# Altium footprint library HamsterBear_Core_Board.PcbLib: 31 footprints (part 2 of 2)
Each footprint in its own frame and in the unit in brackets; x right, y up, seen from the top. Pads: shape width x height; smd on the part's side, far side on the other; paste and mask are expansions set on the pad; w line width, h text height; cw(c..) or ccw(c..) is an arc to the next point about the centre after c.
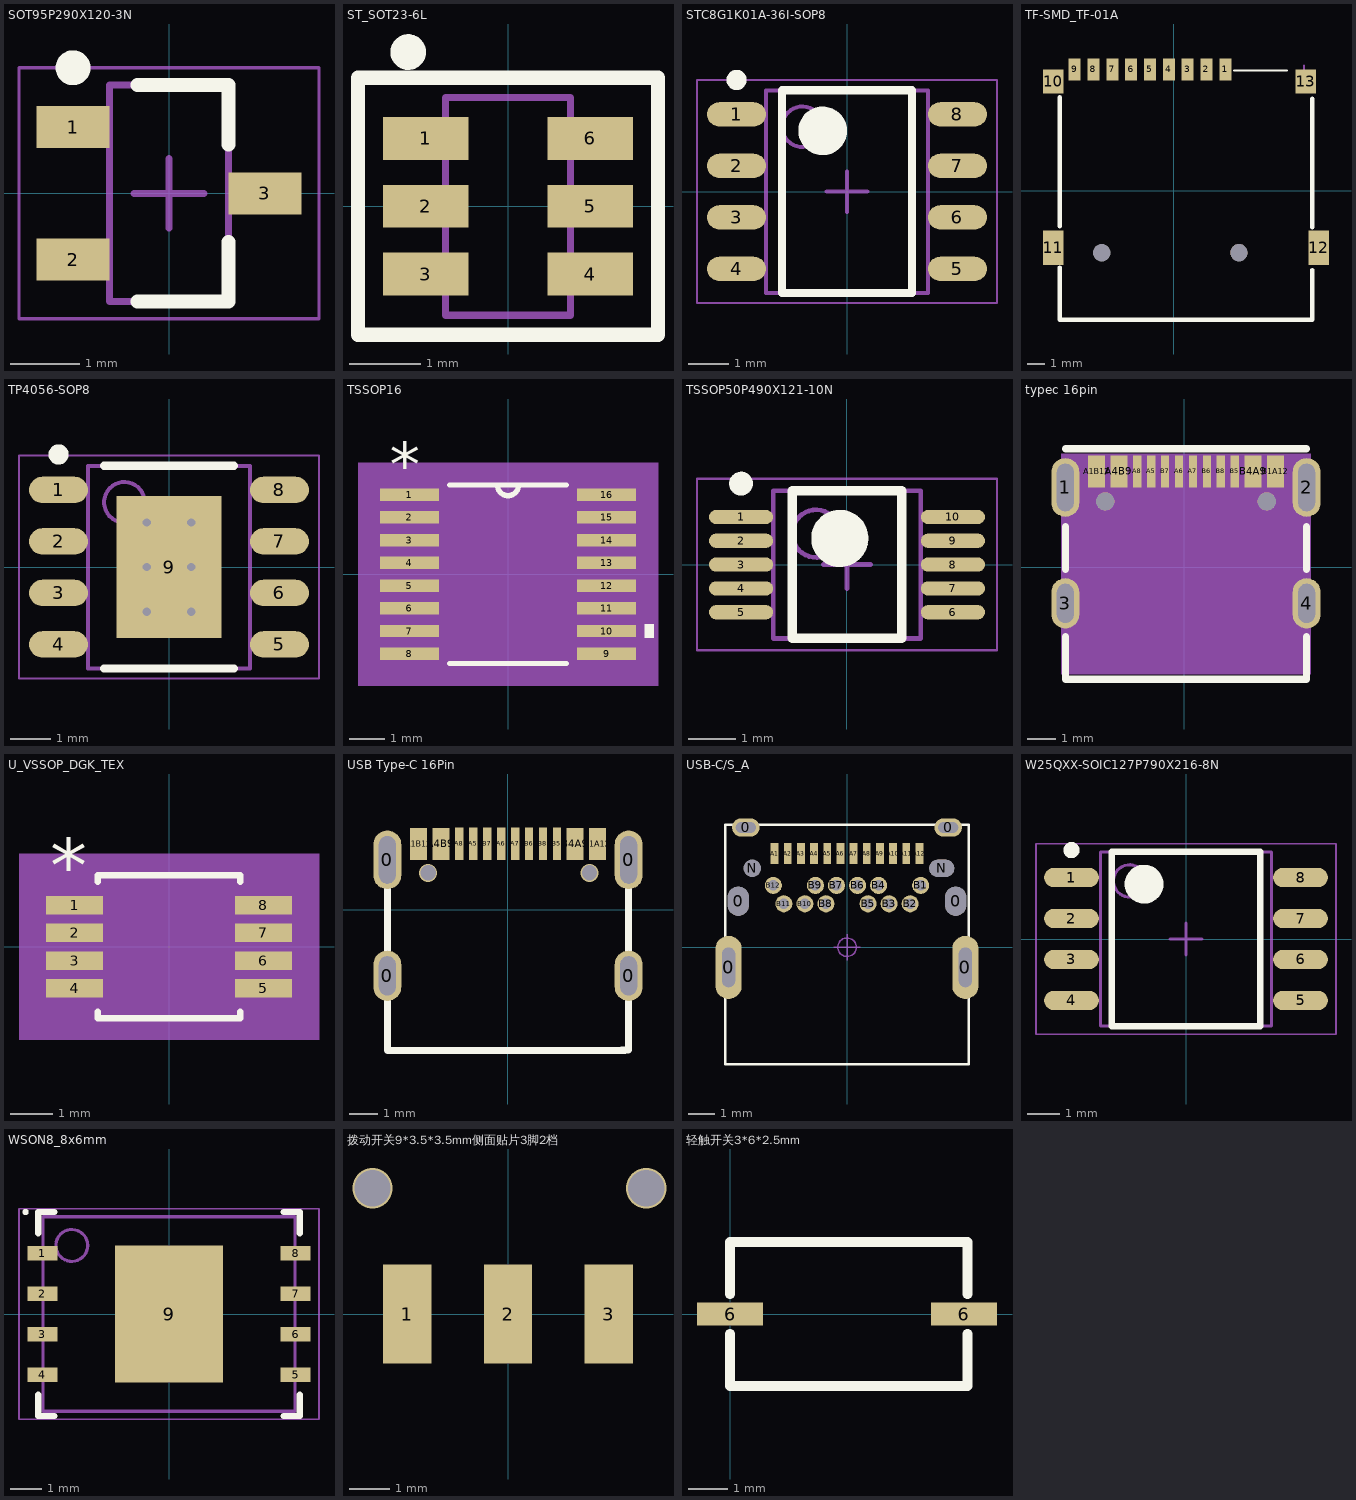
[diagram p1: the footprints below, top view; thin cyan lines are the x and y axes]

## SOT95P290X120-3N [mm] "SOT23, 3-Leads, Body 2.90x2.90mm, Pitch 0.95mm, IPC Medium Density"
height 1.2
pads (3):
  rect 1.05x0.6 smd: 1(-1.375,0.95) 2(-1.375,-0.95) 3(1.375,0)
Top Overlay:
  circle w0.25: c-1.375,1.8 r0.125
  lines w0.2: -0.45,-1.55 0.85,-1.55 0.85,-0.7 ; -0.45,1.55 0.85,1.55 0.85,0.7
Mechanical 13:
  lines w0.1: -0.85,-1.55 -0.85,1.55 0.85,1.55 0.85,-1.55 -0.85,-1.55
Mechanical 15:
  lines w0.05: -2.15,-1.8 -2.15,1.8 2.15,1.8 2.15,-1.8 -2.15,-1.8
  lines w0.1: -0.5,0 0.5,0 ; 0,-0.5 0,0.5
3D body "SOT95P290X120-3N.step": height 1.2, standoff 0, extent -1.55,-1.55 1.55,1.55

## ST_SOT23-6L [mm] "SOT23, 6-Leads, Body 2.93x2.80mm, Pitch 0.95mm, IPC Medium Density"
height 1.45
pads (6):
  rect 1.2x0.6 smd: 1(-1.15,0.95) 2(-1.15,0) 3(-1.15,-0.95) 4(1.15,-0.95) 5(1.15,0) 6(1.15,0.95)
Top Overlay:
  circle w0.25: c-1.397,2.159 r0.125
  lines w0.2: -2.1,-1.8 2.1,-1.8 2.1,1.8 -2.1,1.8 -2.1,-1.8
Mechanical 13:
  lines w0.1: -0.875,-1.525 -0.875,1.525 0.875,1.525 0.875,-1.525 -0.875,-1.525
3D body "ST_SOT23-6L.step": height 1.45, standoff 0, extent -1.6,-1.525 1.6,1.525

## STC8G1K01A-36I-SOP8 [mm] "SOP, 8-Leads, Body 4.90x3.90mm, Pitch 1.27mm, IPC Medium Density"
height 1.75
pads (8):
  oval 1.45x0.6 smd: 1(-2.725,1.905) 2(-2.725,0.635) 3(-2.725,-0.635) 4(-2.725,-1.905) 5(2.725,-1.905) 6(2.725,-0.635) 7(2.725,0.635) 8(2.725,1.905)
Top Overlay:
  circle w0.25: c-2.725,2.755 r0.125
  circle w0.6: c-0.6,1.5 r0.3
  lines w0.2: -1.6,-2.5 -1.6,2.5 1.6,2.5 1.6,-2.5 -1.6,-2.5
Mechanical 13:
  circle w0.1: c-1.1,1.6 r0.5
  lines w0.1: -2,-2.5 -2,2.5 2,2.5 2,-2.5 -2,-2.5
Mechanical 15:
  lines w0.05: -3.7,-2.75 -3.7,2.75 3.7,2.75 3.7,-2.75 -3.7,-2.75
  lines w0.1: -0.5,0 0.5,0 ; 0,-0.5 0,0.5
3D body "SOP127P600X175-8N.step": height 1.75, standoff 0, extent -3,-2.5 3,2.5

## TF-SMD_TF-01A [mm]
pads (15):
  rect 0.7x1.3 smd: 1(3.019,7.083) 2(1.919,7.081) 3(0.823,7.083) 4(-0.277,7.083) 5(-1.376,7.083) 6(-2.474,7.083) 7(-3.57,7.083) 8(-4.668,7.083) 9(-5.772,7.083)
  rect 1.2x1.397 smd: 10(-7.02,6.385) 13(7.712,6.385)
  rect 1.2x2 smd: 11(-7.02,-3.317) 12(8.474,-3.317)
  round 1 hole 1 unplated: ""(-4.188,-3.607) ""(3.811,-3.604)
Top Overlay:
  lines w0.102: 3.513,7.021 6.612,7.022
  lines w0.254: -6.639,-4.467 -6.639,-7.515 8.093,-7.515 8.093,-4.617 ; -6.639,-2.054 -6.639,5.455 ; 8.093,-2.118 8.093,5.375
Mechanical 15:
  lines w0.102: 7.613,6.321 7.613,7.321

## TP4056-SOP8 [mm] "TSOP, 8-Leads, Body 4.90x3.90mm, Pitch 1.27mm, Thermal Pad 3.50x2.60mm, IPC Medium Density"
height 1.35
pads (9):
  oval 1.45x0.65 smd: 1(-2.725,1.905) 2(-2.725,0.635) 3(-2.725,-0.635) 4(-2.725,-1.905) 5(2.725,-1.905) 6(2.725,-0.635) 7(2.725,0.635) 8(2.725,1.905)
  rect 2.6x3.5 smd: 9(0,0)
via -0.55,1.1 diameter 0.5 hole 0.2
via 0.55,1.1 diameter 0.5 hole 0.2
via -0.55,0 diameter 0.5 hole 0.2
via 0.55,0 diameter 0.5 hole 0.2
via -0.55,-1.1 diameter 0.5 hole 0.2
via 0.55,-1.1 diameter 0.5 hole 0.2
Top Overlay:
  circle w0.25: c-2.725,2.78 r0.125
  lines w0.2: -1.6,-2.5 1.6,-2.5 ; -1.6,2.5 1.6,2.5
Mechanical 13:
  circle w0.1: c-1.1,1.6 r0.5
  lines w0.1: -2,-2.5 -2,2.5 2,2.5 2,-2.5 -2,-2.5
Mechanical 15:
  lines w0.05: -3.7,-2.75 -3.7,2.75 3.7,2.75 3.7,-2.75 -3.7,-2.75
  lines w0.1: -0.5,0 0.5,0 ; 0,-0.5 0,0.5
3D body "TP4056-SOP8.step": height 1.35, standoff 0, extent -3,-2.5 3,2.5

## TSSOP16 [mil]
pads (16):
  rect 66x14 smd: 1(-111,89.57) 2(-111,63.98) 3(-111,38.39) 4(-111,12.8) 5(-111,-12.8) 6(-111,-38.39) 7(-111,-63.98) 8(-111,-89.57) 9(111,-89.57) 10(111,-63.98) 11(111,-38.39) 12(111,-12.8) 13(111,12.8) 14(111,38.39) 15(111,63.98) 16(111,89.57)
Top Overlay:
  region: 154,-56.48 164,-56.48 164,-71.48 154,-71.48
  lines w6: -65.5,-100.5 65.5,-100.5 ; -65.5,100.5 65.5,100.5 ; -12,100.5 ccw(c0,100.5) 12,100.5
  text "*" at -133.5,98.57 h50
Mechanical 5:
  region: 169,-125.5 -169,-125.5 -169,125.5 169,125.5
Mechanical 13:
  lines w0: -12,100.5 ccw(c0,100.5) 12,100.5
  lines w1: -130,-95.57 -88.5,-95.57 -88.5,-83.57 -130,-83.57 -130,-95.57 ; -130,-69.98 -88.5,-69.98 -88.5,-57.98 -130,-57.98 -130,-69.98 ; -130,-44.39 -88.5,-44.39 -88.5,-32.39 -130,-32.39 -130,-44.39 ; -130,-18.8 -88.5,-18.8 -88.5,-6.8 -130,-6.8 -130,-18.8 ; -130,6.8 -88.5,6.8 -88.5,18.8 -130,18.8 -130,6.8 ; -130,32.39 -88.5,32.39 -88.5,44.39 -130,44.39 -130,32.39 ; -130,57.98 -88.5,57.98 -88.5,69.98 -130,69.98 -130,57.98 ; -130,83.57 -88.5,83.57 -88.5,95.57 -130,95.57 -130,83.57 ; -88.5,-100.5 -88.5,100.5 88.5,100.5 88.5,-100.5 -88.5,-100.5 ; 88.5,-95.57 130,-95.57 130,-83.57 88.5,-83.57 88.5,-95.57 ; 88.5,-69.98 130,-69.98 130,-57.98 88.5,-57.98 88.5,-69.98 ; 88.5,-44.39 130,-44.39 130,-32.39 88.5,-32.39 88.5,-44.39 ; 88.5,-18.8 130,-18.8 130,-6.8 88.5,-6.8 88.5,-18.8 ; 88.5,6.8 130,6.8 130,18.8 88.5,18.8 88.5,6.8 ; 88.5,32.39 130,32.39 130,44.39 88.5,44.39 88.5,32.39 ; 88.5,57.98 130,57.98 130,69.98 88.5,69.98 88.5,57.98 ; 88.5,83.57 130,83.57 130,95.57 88.5,95.57 88.5,83.57
  text "*" at -133.5,98.57 h50
Mechanical 15:
  region: 154,-110.5 -154,-110.5 -154,110.5 154,110.5
  lines w6: -154,-110.5 154,-110.5 154,110.5 -154,110.5 -154,-110.5
3D body "PW16.step": height 47.09, standoff 0, extent -130,-100.51 130,100.51

## TSSOP50P490X121-10N [mm] "TSSOP, 10-Leads, Body 3.00x3.00mm, Pitch 0.50mm, IPC Medium Density"
height 1.21
pads (10):
  oval 1.35x0.3 smd: 1(-2.225,1) 2(-2.225,0.5) 3(-2.225,0) 4(-2.225,-0.5) 5(-2.225,-1) 6(2.225,-1) 7(2.225,-0.5) 8(2.225,0) 9(2.225,0.5) 10(2.225,1)
Top Overlay:
  circle w0.25: c-2.225,1.7 r0.125
  circle w0.6: c-0.15,0.55 r0.3
  lines w0.2: -1.15,-1.55 -1.15,1.55 1.15,1.55 1.15,-1.55 -1.15,-1.55
Mechanical 13:
  circle w0.1: c-0.65,0.65 r0.5
  lines w0.1: -1.55,-1.55 -1.55,1.55 1.55,1.55 1.55,-1.55 -1.55,-1.55
Mechanical 15:
  lines w0.05: -3.15,-1.8 -3.15,1.8 3.15,1.8 3.15,-1.8 -3.15,-1.8
  lines w0.1: -0.5,0 0.5,0 ; 0,-0.5 0,0.5
3D body "TSSOP50P490X121-10N.step": height 1.21, standoff 0, extent -2.45,-1.55 2.45,1.55

## typec 16pin [mm]
pads (18):
  oval 1x2.1 hole 0.6 slot 1.7 at 90 deg: 1(-4.255,2.854) 2(4.385,2.854)
  oval 1x1.8 hole 0.6 slot 1.4 at 90 deg: 3(-4.256,-1.296) 4(4.385,-1.296)
  rect 0.6x1.15 smd: A1B12(-3.135,3.429) A4B9(-2.335,3.429) B1A12(3.265,3.429) B4A9(2.465,3.429)
  rect 0.3x1.15 smd: A5(-1.185,3.429) A6(-0.185,3.429) A7(0.315,3.429) A8(-1.685,3.429) B5(1.815,3.429) B6(0.815,3.429) B7(-0.685,3.429) B8(1.315,3.429)
  round 0.65 hole 0.65 unplated: ""(-2.825,2.354) ""(2.955,2.354)
Top Overlay:
  lines w0.254: -4.253,-2.489 -4.253,-4.013 4.383,-4.013 4.383,-2.489 ; -4.253,-0.076 -4.253,1.448 ; -4.253,4.242 4.383,4.242 ; 4.383,-0.076 4.383,1.448
Mechanical 4:
  circle w0.325: c2.955,2.354 r0.163
  circle w0.325: c-2.825,2.354 r0.163
  region: -4.405,4.067 4.535,4.067 4.535,-3.833 -4.405,-3.833
Mechanical 5:
  circle w0.127: c2.955,2.354 r0.325
  circle w0.127: c-2.825,2.354 r0.325
  region: -4.405,3.404 -4.105,3.404 -4.105,2.304 -4.405,2.304
  region: 4.235,3.404 4.535,3.404 4.535,2.304 4.235,2.304
  region: -1.82,3.947 -1.55,3.947 -1.55,2.912 -1.82,2.912
  region: -1.32,3.947 -1.05,3.947 -1.05,2.912 -1.32,2.912
  region: -0.82,3.947 -0.55,3.947 -0.55,2.912 -0.82,2.912
  region: -0.32,3.947 -0.05,3.947 -0.05,2.912 -0.32,2.912
  region: 0.18,3.947 0.45,3.947 0.45,2.912 0.18,2.912
  region: 0.68,3.947 0.95,3.947 0.95,2.912 0.68,2.912
  region: 1.18,3.947 1.45,3.947 1.45,2.912 1.18,2.912
  region: 1.68,3.947 1.95,3.947 1.95,2.912 1.68,2.912
  region: 2.195,3.947 2.735,3.947 2.735,2.912 2.195,2.912
  region: 2.995,3.947 3.535,3.947 3.535,2.912 2.995,2.912
  region: -2.605,3.947 -2.065,3.947 -2.065,2.912 -2.605,2.912
  region: -3.405,3.947 -2.865,3.947 -2.865,2.912 -3.405,2.912
  region: -4.405,-0.896 -4.105,-0.896 -4.105,-1.696 -4.405,-1.696
  region: 4.235,-0.896 4.535,-0.896 4.535,-1.696 4.235,-1.696
Mechanical 15:
  lines w0.003: 1.373,0.216 1.424,0.267

## U_VSSOP_DGK_TEX [mil]
pads (8):
  rect 52.5x17 smd paste+0 mask+0: 1(-87.25,38.39) 2(-87.25,12.8) 3(-87.25,-12.8) 4(-87.25,-38.39) 5(87.25,-38.39) 6(87.25,-12.8) 7(87.25,12.8) 8(87.25,38.39)
Top Overlay:
  lines w6: -66,-59.99 -66,-66 66,-66 66,-59.99 ; -66,59.99 -66,66 66,66 66,59.99
  text "*" at -109.75,50.39 h50
Mechanical 5:
  region: 138.5,-86 -138.5,-86 -138.5,86 138.5,86
Mechanical 13:
  lines w0: -12,61 ccw(c0,61) 12,61
  lines w1: -99.5,-45.89 -61,-45.89 -61,-30.89 -99.5,-30.89 -99.5,-45.89 ; -99.5,-20.3 -61,-20.3 -61,-5.3 -99.5,-5.3 -99.5,-20.3 ; -99.5,5.3 -61,5.3 -61,20.3 -99.5,20.3 -99.5,5.3 ; -99.5,30.89 -61,30.89 -61,45.89 -99.5,45.89 -99.5,30.89 ; -61,-61 -61,61 61,61 61,-61 -61,-61 ; 61,-45.89 99.5,-45.89 99.5,-30.89 61,-30.89 61,-45.89 ; 61,-20.3 99.5,-20.3 99.5,-5.3 61,-5.3 61,-20.3 ; 61,5.3 99.5,5.3 99.5,20.3 61,20.3 61,5.3 ; 61,30.89 99.5,30.89 99.5,45.89 61,45.89 61,30.89
  text "*" at -58.5,8 h50
Mechanical 15:
  region: -71,-56.89 -123.5,-56.89 -123.5,56.89 -71,56.89 -71,71 71,71 71,56.89 123.5,56.89 123.5,-56.89 71,-56.89 71,-71 -71,-71
  lines w6: -123.5,-56.89 -71,-56.89 -71,-71 71,-71 71,-56.89 123.5,-56.89 123.5,56.89 71,56.89 71,71 -71,71 -71,56.89 -123.5,56.89 -123.5,-56.89
3D body "U_VSSOP_DGK_TEX.step": height 43.11, standoff 0, extent -99.49,-60.98 99.49,60.98

## USB Type-C 16Pin [mm]
pads (16):
  oval 1x1.8 hole 0.6 slot 1.4 at 90 deg: 0(-4.32,-2.364) 0(4.32,-2.364)
  oval 1x2.1 hole 0.6 slot 1.7 at 90 deg: 0(-4.32,1.786) 0(4.32,1.786)
  rect 0.6x1.15 smd: A1B12(-3.2,2.361) A4B9(-2.4,2.361) B1A12(3.2,2.361) B4A9(2.401,2.361)
  rect 0.3x1.15 smd: A5(-1.247,2.364) A6(-0.247,2.364) A7(0.253,2.364) A8(-1.747,2.364) B5(1.753,2.364) B6(0.753,2.364) B7(-0.747,2.364) B8(1.253,2.364)
via -2.861,1.319 diameter 0.65 hole 0.55
via 2.919,1.319 diameter 0.65 hole 0.55
Top Overlay:
  lines w0.254: -4.32,-2.431 -4.32,-5.031 4.189,-5.031 ; -4.32,-2.364 -4.32,1.786 ; 4.066,-5.027 4.32,-5.027 4.32,-2.364 4.32,1.786

## USB-C/S_A [mm]
pads (32):
  oval 1x2.4 hole 0.5 slot 1.5 at 90 deg: 0(-4.5,-0.765) 0(4.5,-0.765)
  oval 0.8x1.1 hole 0.8 slot 1.1 at 90 deg: 0(-4.13,1.75) 0(4.13,1.75)
  oval 1.05x0.7 hole 0.4 slot 0.75 at 0 deg: 0(-3.845,4.55) 0(3.845,4.55)
  rect 0.3x0.8 smd: A1(-2.75,3.56) A2(-2.25,3.56) A3(-1.75,3.56) A4(-1.25,3.56) A5(-0.75,3.56) A6(-0.25,3.56) A7(0.25,3.56) A8(0.75,3.56) A9(1.25,3.56) A10(1.75,3.56) A11(2.25,3.56) A12(2.75,3.56)
  round 0.65 hole 0.4: B1(2.8,2.35) B2(2.4,1.65) B3(1.6,1.65) B4(1.2,2.35) B5(0.8,1.65) B6(0.4,2.35) B7(-0.4,2.35) B8(-0.8,1.65) B9(-1.2,2.35) B10(-1.6,1.65) B11(-2.4,1.65) B12(-2.8,2.35)
  round 0.65 hole 0.65: N(-3.6,3)
  oval 0.95x0.65 hole 0.65 slot 0.95 at 0 deg: N(3.6,3)
Top Overlay:
  lines w0.1: -4.625,-4.45 4.625,-4.45 4.625,4.65 -4.625,4.65 -4.625,-4.45
Mechanical 15:
  circle w0.05: c0,0 r0.35
  lines w0.05: -0.5,0 0.5,0 ; 0,-0.5 0,0.5
3D body "type-Cĸ?": height 3.35, standoff -0.9, extent -4.625,-4.45 4.625,4.65

## W25QXX-SOIC127P790X216-8N [mm] "SOIC, 8-Leads, Body 5.28x5.23mm, Pitch 1.27mm, IPC Medium Density"
height 2.16
pads (8):
  oval 1.7x0.6 smd: 1(-3.55,1.905) 2(-3.55,0.635) 3(-3.55,-0.635) 4(-3.55,-1.905) 5(3.55,-1.905) 6(3.55,-0.635) 7(3.55,0.635) 8(3.55,1.905)
Top Overlay:
  circle w0.6: c-1.3,1.7 r0.3
  circle w0.25: c-3.55,2.755 r0.125
  lines w0.2: -2.3,-2.7 2.3,-2.7 2.3,2.7 -2.3,2.7 -2.3,-2.7
Mechanical 13:
  circle w0.1: c-1.75,1.8 r0.5
  lines w0.1: -2.65,-2.7 2.65,-2.7 2.65,2.7 -2.65,2.7 -2.65,-2.7
Mechanical 15:
  lines w0.05: -4.65,-2.95 4.65,-2.95 4.65,2.95 -4.65,2.95 -4.65,-2.95
  lines w0.1: -0.5,0 0.5,0 ; 0,-0.5 0,0.5
3D body "SOIC127P790X216-8N.step": height 2.16, standoff 0, extent -3.95,-2.7 3.95,2.7

## WSON8_8x6mm [mm] "SON, 8-Leads, Body 6.00x8.00mm, Pitch 1.27mm, Thermal Pad 4.30x3.40mm, IPC Medium Density"
height 0.8
pads (9):
  rect 0.95x0.45 smd: 1(-3.97,1.905) 2(-3.97,0.635) 3(-3.97,-0.635) 4(-3.97,-1.905) 5(3.97,-1.905) 6(3.97,-0.635) 7(3.97,0.635) 8(3.97,1.905)
  rect 3.4x4.3 smd paste-1.7: 9(0,0)
Top Overlay:
  circle w0.1: c-4.5,3.2 r0.05
  lines w0.2: -4.1,-2.53 -4.1,-3.2 -3.595,-3.2 ; -4.1,2.53 -4.1,3.2 -3.595,3.2 ; 3.595,-3.2 4.1,-3.2 4.1,-2.53 ; 3.595,3.2 4.1,3.2 4.1,2.53
Top Paste:
  rectangle: -1.595,0.815 -0.665,2.045
  rectangle: -1.595,-0.615 -0.665,0.615
  rectangle: -1.595,-2.045 -0.665,-0.815
  rectangle: -0.465,0.815 0.465,2.045
  rectangle: -0.465,-0.615 0.465,0.615
  rectangle: -0.465,-2.045 0.465,-0.815
  rectangle: 0.665,0.815 1.595,2.045
  rectangle: 0.665,-0.615 1.595,0.615
  rectangle: 0.665,-2.045 1.595,-0.815
Mechanical 13:
  circle w0.1: c-3.05,2.15 r0.5
  lines w0.1: -3.95,-3.05 -3.95,3.05 3.95,3.05 3.95,-3.05 -3.95,-3.05
Mechanical 15:
  lines w0.05: -4.705,-3.3 -4.705,3.3 4.705,3.3 4.705,-3.3 -4.705,-3.3
  lines w0.1: -0.5,0 0.5,0 ; 0,-0.5 0,0.5
3D body: height 0.8, standoff 0, extent -3.95,-3.05 3.95,3.05

## 拨动开关9*3.5*3.5mm侧面贴片3脚2档 [mm]
pads (3):
  rect 1.2x2.45 smd: 1(-2.5,0) 2(0,0) 3(2.5,0)
via 3.435,3.12 diameter 1 hole 0.9
via -3.365,3.12 diameter 1 hole 0.9

## 轻触开关3*6*2.5mm [mm]
height 2.5
pads (2):
  rect 1.7x0.6 smd: 6(0,0) 6(6,0)
Top Overlay:
  lines w0.254: 0,-0.508 0,-1.85 6.096,-1.85 6.096,-0.508 ; 0,0.508 0,1.85 6.096,1.85 6.096,0.508